# EAGLE library part 43160-*06 (library con-molex)
SDA-43160 Connector Source: http://www.molex.com/pdm_docs/sd/431601306_sd.pdf
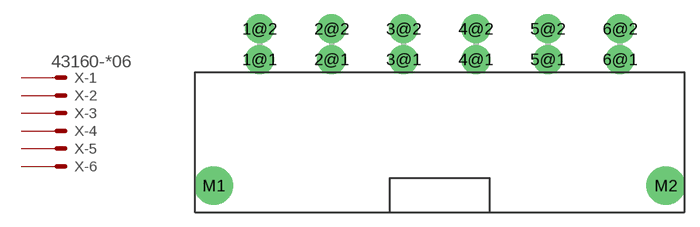
[diagram p210: symbol with the pads of 43160-XX06; footprint 43160-XX06]

Designator prefix X; gates -1=MV2 -2=M2 -3=M2 -4=M2 -5=M2 -6=M2

## 43160-1106 (MF: WALDOM/MOLEX; MPN: 43160-1106; OC_FARNELL: unknown; OC_NEWARK: 54H0259), 43160-1206 (MF: MOLEX; OC_FARNELL: unknown; OC_NEWARK: unknown), 43160-1306 (MF: MOLEX; MPN: 43160-1306; OC_FARNELL: unknown; OC_NEWARK: 92M1484), 43160-1406 (MF: MOLEX; OC_FARNELL: unknown; OC_NEWARK: unknown), 43160-3106 (MF: WALDOM/MOLEX; MPN: 43160-3106; OC_FARNELL: 3293075; OC_NEWARK: 54H0268), 43160-3206 (MF: MOLEX; OC_FARNELL: unknown; OC_NEWARK: unknown), 43160-5106 (MF: MOLEX; MPN: 43160-5106; OC_FARNELL: unknown; OC_NEWARK: 92M1497), 43160-5206 (MF: MOLEX; OC_FARNELL: unknown; OC_NEWARK: unknown), 43160-5306 (MF: MOLEX; MPN: 43160-5306; OC_FARNELL: unknown; OC_NEWARK: 92M1502), 43160-5406 (MF: MOLEX; OC_FARNELL: unknown; OC_NEWARK: unknown), 43160-7306 (MF: MOLEX; MPN: 43160-7306; OC_FARNELL: unknown; OC_NEWARK: 92M1511), 43160-7406 (MF: MOLEX; OC_FARNELL: unknown; OC_NEWARK: unknown)  [43160-XX06]
1@1  -1:S  pas
1@2  -1:S  pas
2@1  -2:S  pas
2@2  -2:S  pas
3@1  -3:S  pas
3@2  -3:S  pas
4@1  -4:S  pas
4@2  -4:S  pas
5@1  -5:S  pas
5@2  -5:S  pas
6@1  -6:S  pas
6@2  -6:S  pas

## Footprint 43160-XX06 (pad centres in mm)
7.50mm Pitch Sabre™ Header, Right Angle, 6 Circuits, Glow Wire Capable, PCB Thickness 3.20mm, with Board Lock Datasheet <http://www.molex.com/pdm_docs/sd/431607306_sd.pdf>
drill 1.8 pad 3: 1@1 -18.725,0; 1@2 -18.725,3.18; 2@1 -11.235,0; 2@2 -11.235,3.18; 3@1 -3.745,0; 3@2 -3.745,3.18; 4@1 3.745,0; 4@2 3.745,3.18; 5@1 11.235,0; 5@2 11.235,3.18; 6@1 18.725,0; 6@2 18.725,3.18
drill 3 pad 3.4: M1 -23.475,-13.13; M2 23.475,-13.13